# Altium schematic symbol library Main.SCHLIB: 16 symbols
Pins are listed as number, name and electrical type; pins without a type are passive.

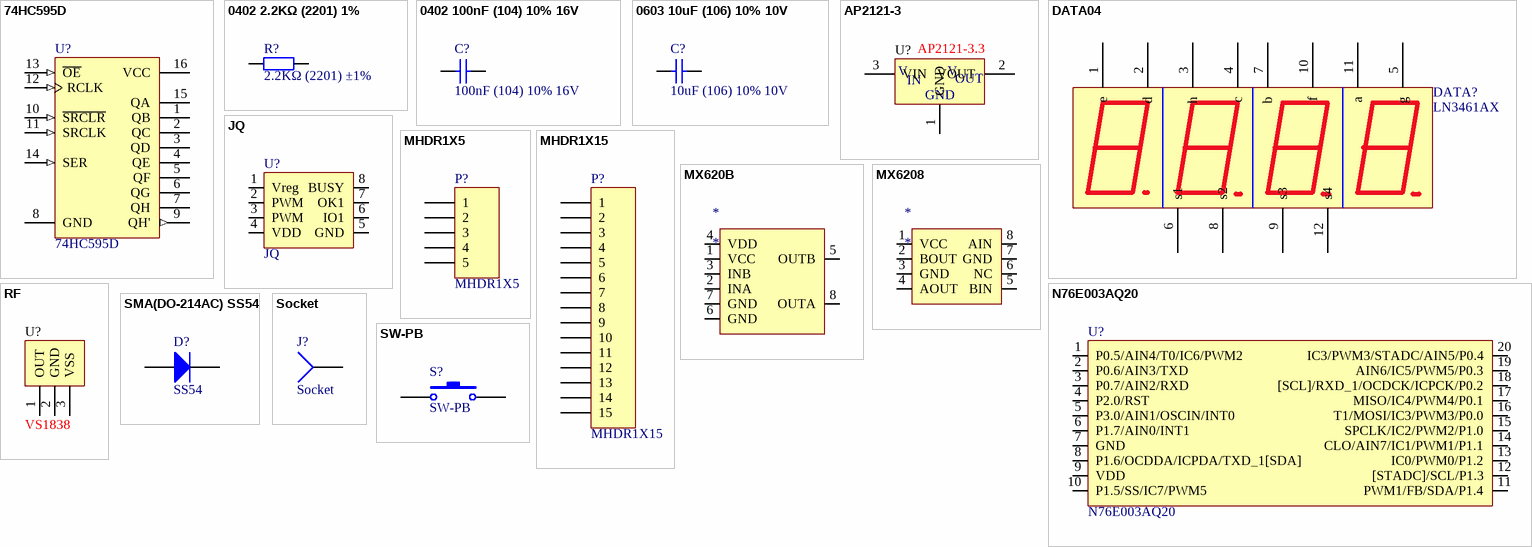
[diagram p0: symbols 74HC595D to SW-PB]

## 74HC595D
designator U?
74系列逻辑芯片; ComponentLink1Description: 供应商链接; ComponentLink1URL: http://www.szlcsc.com/product/details_6413.html; Package: SOIC-16_150mil; Supplier: LC; SuppliersPartNumber: C5947
footprint SOIC-16_150mil
pins: 1 QB (hiz), 2 QC (hiz), 3 QD (hiz), 4 QE (hiz), 5 QF (hiz), 6 QG (hiz), 7 QH (hiz), 8 GND (power), 9 QH' (out), 10 ~{SRCLR} (in), 11 SRCLK (in), 12 RCLK (in), 13 ~{OE} (in), 14 SER (in), 15 QA (hiz), 16 VCC (power)

## 0402 2.2KΩ (2201) 1%
designator R?, comment 2.2KΩ (2201) ±1%
贴片电阻; ComponentLink1Description: 供应商链接; ComponentLink1URL: http://www.szlcsc.com/product/details_26622.html; Package: 0402; Supplier: LC; SuppliersPartNumber: C25879
footprint 0402_R
pins: 1, 2

## 0402 100nF (104) 10% 16V
designator C?, comment 100nF (104) 10% 16V
贴片电容; ComponentLink1Description: 供应商链接; ComponentLink1URL: http://www.szlcsc.com/product/details_1877.html; Package: 0402; Supplier: LC; SuppliersPartNumber: C1525
footprint 0402_C
pins: 1, 2

## 0603 10uF (106) 10% 10V
designator C?, comment 10uF (106) 10% 10V
贴片电容; ComponentLink1Description: 供应商链接; ComponentLink1URL: http://www.szlcsc.com/product/details_20411.html; Package: 0603; Supplier: LC; SuppliersPartNumber: C19702
footprint 0603_C
pins: 1, 2

## AP2121-3
designator U?, comment AP2121-3.3
3V LDO
footprint SOT-23
pins: 1 GND, 2 VOUT, 3 VIN
text: V; IN; OUT

## DATA04
designator DATA?, comment LN3461AX
data?
footprint data04
footprint DATA4
footprint DIP12:DISP2
pins: 1 e, 2 d, 3 h, 4 c, 5 g, 6 s1, 7 b, 8 s2, 9 s3, 10 f, 11 a, 12 s4
2 alternate drawings of the same symbol

## JQ
designator U?
footprint SO8_N (SOIC, 8-Leads, Body 4.9x3.9mm, Pitch 1.27mm, IPC Medium Density)
pins: 1 Vreg, 2 PWM, 3 PWM, 4 VDD, 5 GND, 6 IO1, 7 OK1, 8 BUSY

## MHDR1X5
designator P?
Header, 5-Pin; LatestRevisionDate: 17-Jul-2002; LatestRevisionNote: Re-released for DXP Platform.; Publisher: Altium Limited
footprint MHDR1X5 (Connector; Header; 5 Position)
signal-integrity model Connector
pins: 1, 2, 3, 4, 5

## MHDR1X15
designator P?
Header, 15-Pin; LatestRevisionDate: 17-Jul-2002; LatestRevisionNote: Re-released for DXP Platform.; Publisher: Altium Limited
footprint SDIP201401
signal-integrity model Connector
pins: 1, 2, 3, 4, 5, 6, 7, 8, 9, 10, 11, 12, 13, 14, 15

## MX620B
designator *
pins: 1 VCC, 2 INA, 3 INB, 4 VDD, 5 OUTB, 6 GND, 7 GND, 8 OUTA

## MX6208
designator *
pins: 1 VCC, 2 BOUT, 3 GND, 4 AOUT, 5 BIN, 6 NC, 7 GND, 8 AIN

## N76E003AQ20
designator U?
footprint TSSOP20
pins: 1 P0.5/AIN4/T0/IC6/PWM2, 2 P0.6/AIN3/TXD, 3 P0.7/AIN2/RXD, 4 P2.0/RST, 5 P3.0/AIN1/OSCIN/INT0, 6 P1.7/AIN0/INT1, 7 GND, 8 P1.6/OCDDA/ICPDA/TXD_1[SDA], 9 VDD, 10 P1.5/SS/IC7/PWM5, 11 PWM1/FB/SDA/P1.4, 12 [STADC]/SCL/P1.3, 13 IC0/PWM0/P1.2, 14 CLO/AIN7/IC1/PWM1/P1.1, 15 SPCLK/IC2/PWM2/P1.0, 16 T1/MOSI/IC3/PWM3/P0.0, 17 MISO/IC4/PWM4/P0.1, 18 [SCL]/RXD_1/OCDCK/ICPCK/P0.2, 19 AIN6/IC5/PWM5/P0.3, 20 IC3/PWM3/STADC/AIN5/P0.4

## RF
designator U?, comment VS1838
1838 接收头 VS1838 VS1838B
footprint LF0038Q
pins: 1 OUT, 2 GND, 3 VSS

## SMA(DO-214AC) SS54
designator D?, comment SS54
二极管; ComponentLink1Description: 供应商链接; ComponentLink1URL: http://www.szlcsc.com/product/details_23178.html; Package: SMA(DO-214AC); Supplier: LC; SuppliersPartNumber: C22452
footprint SMA(DO-214AC)_S1
pins: 1 A, 2 K

## Socket
designator J?
LatestRevisionDate: 17-Jul-2002; LatestRevisionNote: Re-released for DXP Platform.; Publisher: Altium Limited
footprint FPAD_1
signal-integrity model Connector
pins: 1

## SW-PB
designator S?
Switch; Published: 24-Mar-1999; LatestRevisionDate: 17-Jul-2002; LatestRevisionNote: Re-released for DXP Platform.; PackageReference: SPST-2; Publisher: Altium Limited; PackageDescription: Switch; 2 Leads
footprint SB1$2F$2
pins: 1, 2